# Altium footprint library LM298_Footprint_Library.PcbLib: 10 footprints
Each footprint in its own frame and in the unit in brackets; x right, y up, seen from the top. Pads: shape width x height; smd on the part's side, far side on the other; paste and mask are expansions set on the pad; w line width, h text height; cw(c..) or ccw(c..) is an arc to the next point about the centre after c.
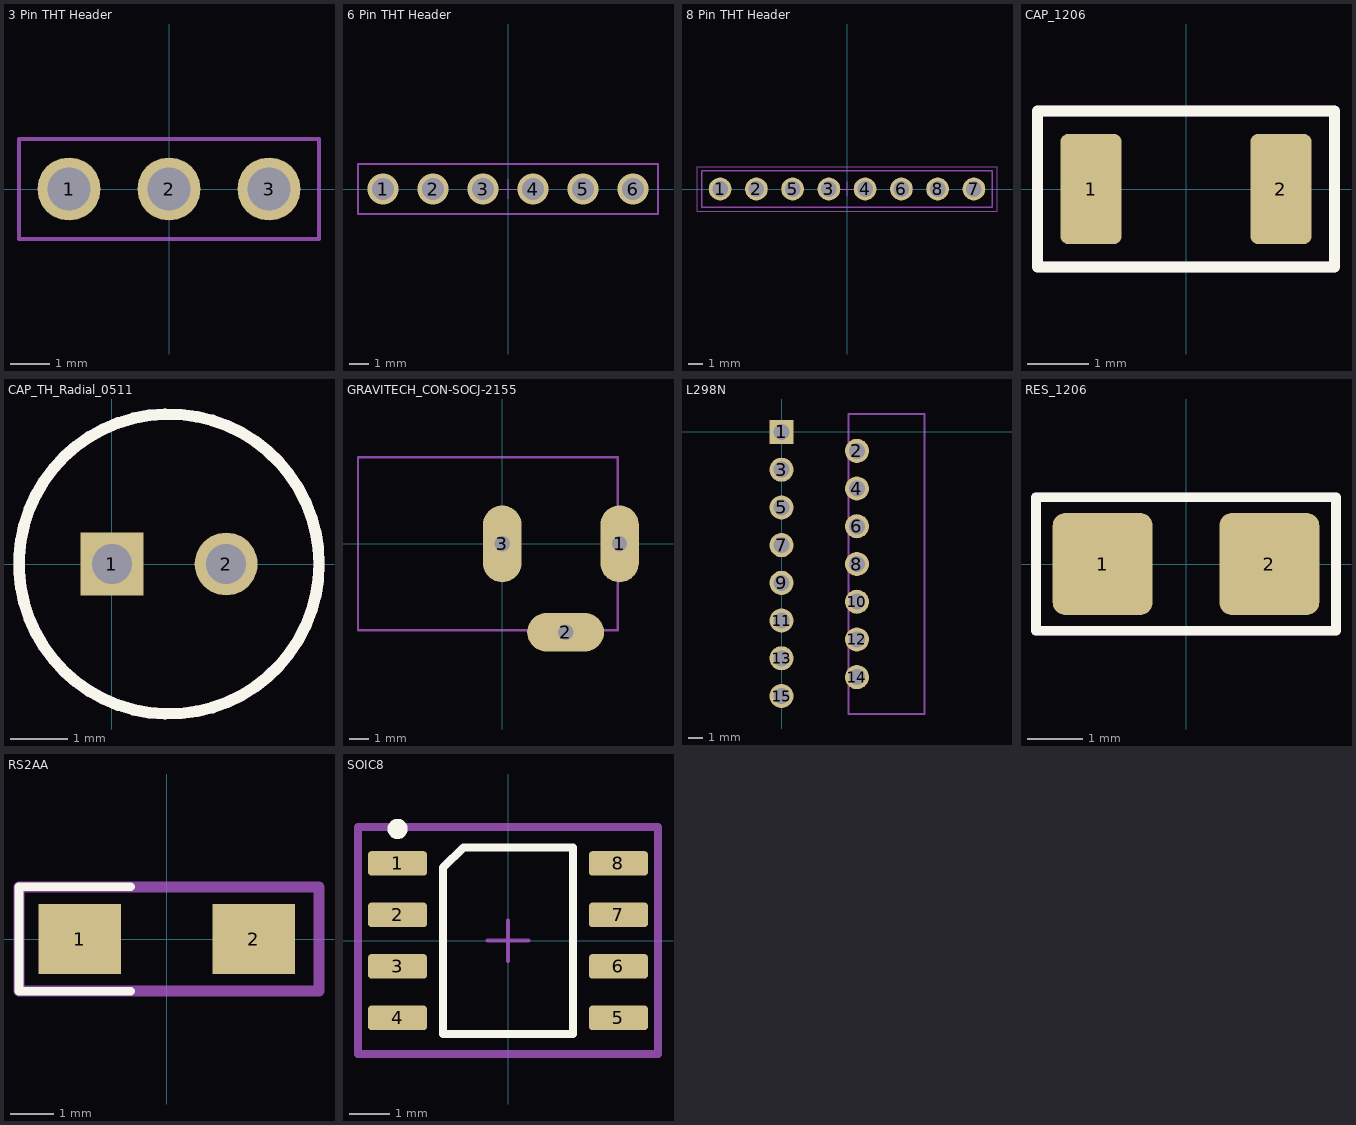
[diagram p0: the footprints below, top view; thin cyan lines are the x and y axes]

## 3 Pin THT Header [mm] "Pin Header, pitch 2.54 mm, THT, Vertical, single row, 3p"
height 8.54
pads (3):
  round 1.6 hole 1.1: 1(-2.54,0) 2(0,0) 3(2.54,0)
Mechanical 13:
  lines w0.1: -3.81,-1.27 3.81,-1.27 3.81,1.27 -3.81,1.27 -3.81,-1.27
  text ".Designator" at -3.2,-0.267 h0.7
Top Component Center:
  lines w0.05: -0.5,0 0.5,0 ; 0,-0.5 0,0.5
3D body "61300311121.stp": height 8.57, standoff -2.97, extent -3.81,-1.27 3.81,1.27

## 6 Pin THT Header [mm] "Pin Header, pitch 2.54 mm, THT, Vertical, single row, 6p"
height 8.54
pads (6):
  round 1.6 hole 1.1: 1(-6.35,0) 2(-3.81,0) 3(-1.27,0) 4(1.27,0) 5(3.81,0) 6(6.35,0)
Mechanical 13:
  lines w0.1: -7.62,-1.27 7.62,-1.27 7.62,1.27 -7.62,1.27 -7.62,-1.27
  text ".Designator" at -3.2,-0.167 h0.7
Top Component Center:
  lines w0.05: -0.5,0 0.5,0 ; 0,-0.5 0,0.5
3D body "61300611121.stp": height 8.57, standoff -2.97, extent -7.62,-1.27 7.62,1.27

## 8 Pin THT Header [mm] "Pin Header, pitch 2.54 mm, THT, Vertical, single row, 8p"
height 8.54
pads (8):
  round 1.6 hole 1.1: 1(-8.89,0) 2(-6.35,0) 3(-1.27,0) 4(1.27,0) 5(-3.81,0) 6(3.81,0) 7(8.89,0) 8(6.35,0)
Top Courtyard:
  lines w0.05: -10.51,-1.545 -10.51,1.545 10.51,1.545 10.51,-1.545 -10.51,-1.545
Mechanical 13:
  lines w0.1: -10.16,-1.27 -10.16,1.27 10.16,1.27 10.16,-1.27 -10.16,-1.27
  text ".Designator" at -3.7,-0.167 h0.7
Top Component Center:
  lines w0.05: -0.5,0 0.5,0 ; 0,-0.5 0,0.5
3D body "61300811121.stp": height 8.57, standoff -2.97, extent -10.16,-1.27 10.16,1.27

## CAP_1206 [mm]
pads (2):
  rrect25% 1x1.8 smd: 1(-1.55,0) 2(1.55,0)
Top Overlay:
  lines w0.175: -2.425,-1.275 -2.425,1.275 2.425,1.275 2.425,-1.275 -2.425,-1.275
Mechanical 13:
  lines w0.175: -2.425,-1.275 -2.425,1.275 2.425,1.275 2.425,-1.275 -2.425,-1.275
  text "'.Designator'" at -5.665,-0.417 h1
3D body "C1206.step": height 0.94, standoff 0, extent -1.6,-0.8 1.6,0.8

## CAP_TH_Radial_0511 [mm]
pads (2):
  rect 1.1x1.1 / inner round 1.1 / far side rect 1.1x1.1 hole 0.7: 1(0,0)
  round 1.1 hole 0.7: 2(2,0)
Top Overlay:
  circle w0.2: c1,0 r2.625
Mechanical 13:
  circle w0.2: c1,0 r2.625
  text ".Designator" at -1.424,-0.302 h0.7
3D body "REA010M2CBK-0511P.stp": height 12.5, standoff -10, extent -1.738,-2.747 3.75,2.747

## GRAVITECH_CON-SOCJ-2155 [mm]
height 11.1
pads (3):
  oval 2x4 hole 0.8 square: 1(6.1,0) 3(0,0)
  oval 4x2 hole 0.8 square: 2(3.3,-4.6)
Mechanical 13:
  lines w0.127: -7.5,-4.5 -7.5,4.5 6,4.5 6,-4.5 -7.5,-4.5
  text ".Designator" at -3.8,-0.167 h0.7
3D body "step_temp.STEP": height 11.1, standoff -4.3, extent -7.385,-4.75 6.715,4.5

## L298N [mm]
pads (15):
  rect 1.62x1.62 hole 1.08: 1(0,0)
  round 1.62 hole 1.08: 2(5.08,-1.27) 3(0,-2.54) 4(5.08,-3.81) 5(0,-5.08) 6(5.08,-6.35) 7(0,-7.62) 8(5.08,-8.89) 9(0,-10.16) 10(5.08,-11.43) 11(0,-12.7) 12(5.08,-13.97) 13(0,-15.24) 14(5.08,-16.51) 15(0,-17.78)
Mechanical 13:
  lines w0.127: 4.5,-18.99 4.5,1.21 9.63,1.21 9.63,-18.99 4.5,-18.99
  text ".Designator" at 6.967,-12.6 h0.7
3D body "l298n.stp": height 20.45, standoff -4.5, extent -0.33,-18.908 9.56,1.092

## RES_1206 [mm]
pads (2):
  rrect25% 1.8x1.84 smd: 1(-1.5,0) 2(1.5,0)
Top Overlay:
  lines w0.175: -2.7,-1.2 2.7,-1.2 2.7,1.2 -2.7,1.2 -2.7,-1.2
Mechanical 13:
  lines w0.175: -2.7,-1.2 2.7,-1.2 2.7,1.2 -2.7,1.2 -2.7,-1.2
  text "'.Designator'" at -5.665,-0.417 h1
3D body "R1206.step": height 0.57, standoff 0.01, extent -1.6,-0.83 1.6,0.83

## RS2AA [mm]
pads (2):
  rect 1.9x1.6 smd: 1(-2,0) 2(2,0)
Top Overlay:
  lines w0.2: -0.833,-1.2 -3.4,-1.2 -3.4,1.2 -0.833,1.2
Mechanical 13:
  lines w0.254: -3.4,-1.2 3.5,-1.2 3.5,1.2 -3.4,1.2 -3.4,-1.2
  text ".Designator" at -2.6,-0.167 h0.7
3D body: height 2.5, standoff 0, extent -2.3,-1 2.3,1

## SOIC8 [mm] "SOIC, 8-Leads, Body 4.91x3.90mm, Pitch 1.27mm, IPC Medium Density"
height 1.75
pads (8):
  rrect25% 1.45x0.6 smd: 1(-2.725,1.905) 2(-2.725,0.635) 3(-2.725,-0.635) 4(-2.725,-1.905) 5(2.725,-1.905) 6(2.725,-0.635) 7(2.725,0.635) 8(2.725,1.905)
Top Overlay:
  circle w0.25: c-2.725,2.755 r0.125
  lines w0.2: -1.6,-2.3 1.6,-2.3 1.6,2.3 -1.1,2.3 -1.6,1.8 -1.6,-2.3
Mechanical 13:
  circle w0.3: c-2.7,1.9 r0.12
  lines w0.2: -3.7,-2.8 3.7,-2.8 3.7,2.8 -3.7,2.8 -3.7,-2.8
  text "'.Designator'" at -6.315,-1.4 h1
Mechanical 15:
  lines w0.05: -3.7,-2.75 -3.7,2.75 3.7,2.75 3.7,-2.75 -3.7,-2.75
  lines w0.1: -0.5,0 0.5,0 ; 0,-0.5 0,0.5
3D body "SOIC-8.step": height 1.75, standoff 0, extent -2.997,-2.5 2.997,2.5